# EAGLE library part WE-RJ45_74990101241 (library WE-RJ45_LAN)
WE-RJ45 LAN Transformer Characteristics RJ45 Connector with integrated transformer / common mode choke Power over Ethernet up to 50 Watt and speeds up to 10 Gbit/s Available in SMD, THT and THT with USB Compliant with standards: IEEE 802.3u, IEEE 802.3ab, IEEE 802.3af, IEEE 802.3at, IEEE 802.3an and upcoming IEE 802.3bt Applications Suitable for industrial temperatures from –40 °C up to +85 °C Compatible to Industrial Ethernet systems like EtherCAT or Profinet Compliant with most IC’s for Ethernet applications such as Microchip, Texas Instruments, Broadcom, Linear Technology Hubs, Routers, Switches, IP cameras, IoT applications Details see: www.we-online.com/components/products/WE-LAN-RJ45 Updated by Ella Wu 2019-08-05 2019 (C) Würth Elektronik
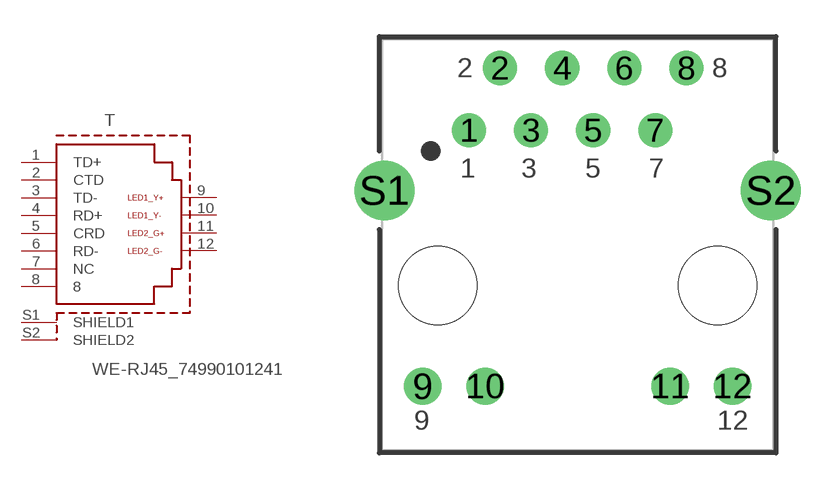
[diagram p22: symbol with the pads of 74990101241; footprint 74990101241]

Designator prefix T

## WE-RJ45_74990101241 (DATA-RATE: 10/100BASE-T; DATASHEET: https://www.we-online.com/redexpert/spec/74990101241?ae; IMPROVED-CMRR: No; LED: green-yellow; MOUNT: THT; OPERATING-TEMPERATURE: -40 °C up to +85 °C; PART-NUMBER: 74990101241; PHY-CHIP-MODE: current & voltage; POE: non-PoE; PORTS: 1; SHIELD-TABS: No; TAB: Vertical; USB: No; VALUE: 74990101241)  [74990101241]
1  TD+  pas
2  CTD  pas
3  TD-  pas
4  RD+  pas
5  CRD  pas
6  RD-  pas
7  NC  pas
8  8  pas
9  LED1_Y+  pas
10  LED1_Y-  pas
11  LED2_G+  pas
12  LED2_G-  pas
S1  SHIELD1  pas
S2  SHIELD2  pas

## Footprint 74990101241 (pad centres in mm)
WE-RJ45 LAN Transformer 10/100BASE-T, Ports:1, Tab:Vertical
drill 0.89: 1 -4.445,6.35; 2 -3.175,8.89; 3 -1.905,6.35; 4 -0.635,8.89; 5 0.635,6.35; 6 1.905,8.89; 7 3.175,6.35; 8 4.445,8.89
drill 1.02: 9 -6.325,-4.11; 10 -3.785,-4.11; 11 3.785,-4.11; 12 6.325,-4.11
drill 1.63: S1 -7.9,3.89; S2 7.9,3.89
hole 3.2 at -5.715,0
hole 3.2 at 5.715,0